# EAGLE library part M06 (library ELL-i-Connectors)
Header 6 Standard 6-pin 0.1" header. Please note that the SparkFun-Connectors.lbr has more variants.
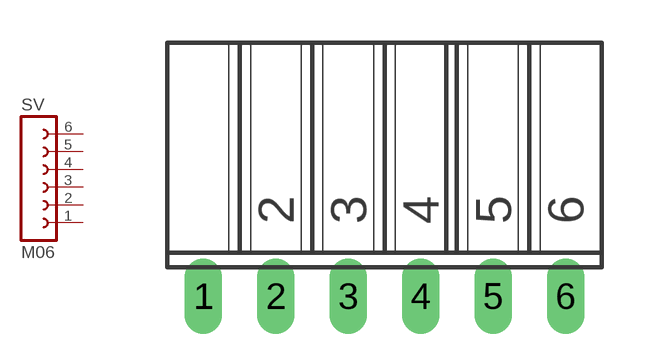
[diagram p8: symbol with the pads of 1X06-THT-FEMALE-ANGLE90; footprint 1X06-THT-FEMALE-ANGLE90]

Designator prefix SV

## M06  [1X06-THT-FEMALE-ANGLE90]
1  1  pas
2  2  pas
3  3  pas
4  4  pas
5  5  pas
6  6  pas

## Footprint 1X06-THT-FEMALE-ANGLE90 (pad centres in mm)
Ordinary 6-pin female header This is an ordinary, 6-pin female header, with ordinary lables. Ninigi ZL263-6SG <http://www.tme.eu/en/details/zl263-6sg/pin-headers/ninigi/> (TME)
drill 0.813 long: 1 -6.35,0; 2 -3.81,0; 3 -1.27,0; 4 1.27,0; 5 3.81,0; 6 6.35,0